# Altium schematic symbol library GRM155R61A102KA01D.SchLib: 1 symbol
Pins are listed as number, name and electrical type; pins without a type are passive.

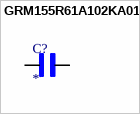
[diagram p0: symbol GRM155R61A102KA01D]

## GRM155R61A102KA01D
designator C?
SMD-ÐºÐ¾Ð½Ð´ÐµÐ½ÑÐ°Ñ‚Ð¾Ñ€ X5R(EIA) Ñ Ñ‘Ð¼ÐºÐ¾ÑÑ‚ÑŒÑŽ 1000 Ð¿Ð¤, Ð´Ð¾Ð¿ÑƒÑÐº 10 %. ÐÐ¾Ð¼Ð¸Ð½Ð°Ð»ÑŒÐ½Ð¾Ðµ Ð½Ð°Ð¿Ñ€ÑÐ¶ÐµÐ½Ð¸Ðµ: 10 Ð’ Ð¿Ð¾ÑÑ‚Ð¾ÑÐ½Ð½Ð¾Ð³Ð¾ Ñ‚Ð¾ÐºÐ°; MF: Murata Electronics; MP: GRM155R61A102KA01D; SnapEDA_Link: https://www.snapeda.com/parts/GRM155R61A102KA01D/Murata+Electronics+North+America/view-part/?ref=snap; Package: 1005-2 Murata; Value: *; Check_prices: https://www.snapeda.com/parts/GRM155R61A102KA01D/Murata+Electronics+North+America/view-part/?ref=eda
footprint CAPC1005X55N
pins: 1, 2